# Altium footprint library Capacitor Polar Axial.PcbLib: 56 footprints (part 4 of 4)
Each footprint in its own frame and in the unit in brackets; x right, y up, seen from the top. Pads: shape width x height; smd on the part's side, far side on the other; paste and mask are expansions set on the pad; w line width, h text height; cw(c..) or ccw(c..) is an arc to the next point about the centre after c.
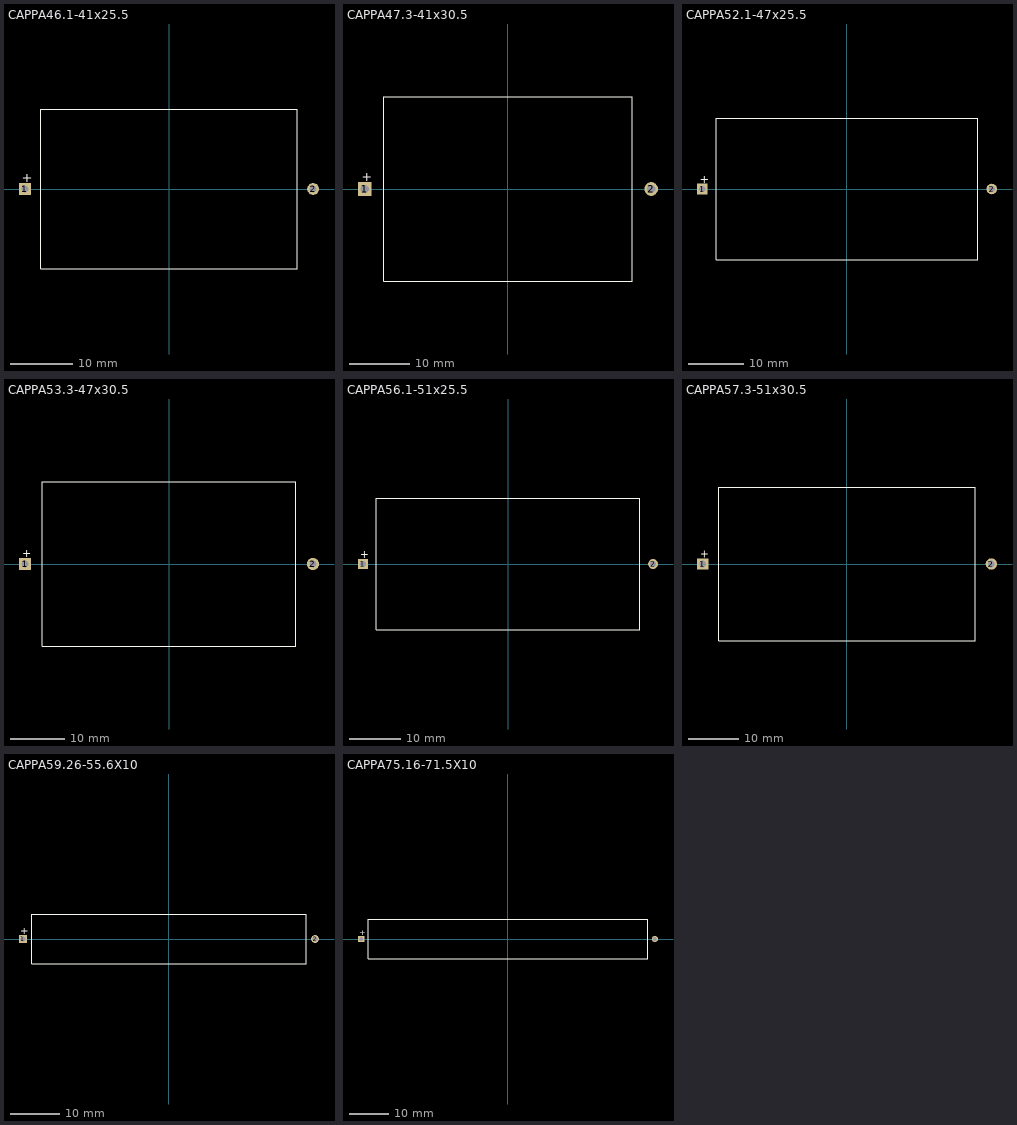
[diagram p3: the footprints below, top view; thin cyan lines are the x and y axes]

## CAPPA46.1-41x25.5 [mm] "Capacitor, Axial, Polarised; Body 41 x 25.5 mm (LxDia. max), Lead Dia. 0.8 mm (typ)"
height 25.5
pads (2):
  rect 1.9x1.9 hole 1.15: 1(-23.05,0)
  round 1.9 hole 1.15: 2(23.05,0)
Top Overlay:
  lines w0.2: -20.5,-12.75 -20.5,12.75 20.5,12.75 20.5,-12.75 -20.5,-12.75
  text "+" at -23.55,1.075 h1.5

## CAPPA47.3-41x30.5 [mm] "Capacitor, Axial, Polarised; Body 41 x 30.5 mm (LxDia. max), Lead Dia. 1 mm (typ)"
height 30.5
pads (2):
  rect 2.25x2.25 hole 1.35: 1(-23.65,0)
  round 2.25 hole 1.35: 2(23.65,0)
Top Overlay:
  lines w0.2: -20.5,-15.25 -20.5,15.25 20.5,15.25 20.5,-15.25 -20.5,-15.25
  text "+" at -24.15,1.25 h1.5

## CAPPA52.1-47x25.5 [mm] "Capacitor, Axial, Polarised; Body 47 x 25.5 mm (LxDia. max), Lead Dia. 0.8 mm (typ)"
height 25.5
pads (2):
  rect 1.9x1.9 hole 1.15: 1(-26.05,0)
  round 1.9 hole 1.15: 2(26.05,0)
Top Overlay:
  lines w0.2: -23.5,-12.75 23.5,-12.75 23.5,12.75 -23.5,12.75 -23.5,-12.75
  text "+" at -26.55,1.075 h1.5

## CAPPA53.3-47x30.5 [mm] "Capacitor, Axial, Polarised; Body 47 x 30.5 mm (LxDia. max), Lead Dia. 1 mm (typ)"
height 30.5
pads (2):
  rect 2.25x2.25 hole 1.35: 1(-26.65,0)
  round 2.25 hole 1.35: 2(26.65,0)
Top Overlay:
  lines w0.2: -23.5,-15.25 23.5,-15.25 23.5,15.25 -23.5,15.25 -23.5,-15.25
  text "+" at -27.15,1.25 h1.5

## CAPPA56.1-51x25.5 [mm] "Capacitor, Axial, Polarised; Body 51 x 25.5 mm (LxDia. max), Lead Dia. 0.8 mm (typ)"
height 25.5
pads (2):
  rect 1.9x1.9 hole 1.15: 1(-28.05,0)
  round 1.9 hole 1.15: 2(28.05,0)
Top Overlay:
  lines w0.2: -25.5,-12.75 -25.5,12.75 25.5,12.75 25.5,-12.75 -25.5,-12.75
  text "+" at -28.55,1.075 h1.5

## CAPPA57.3-51x30.5 [mm] "Capacitor, Axial, Polarised; Body 51 x 30.5 mm (LxDia. max), Lead Dia. 1 mm (typ)"
height 30.5
pads (2):
  rect 2.25x2.25 hole 1.35: 1(-28.65,0)
  round 2.25 hole 1.35: 2(28.65,0)
Top Overlay:
  lines w0.2: -25.5,-15.25 25.5,-15.25 25.5,15.25 -25.5,15.25 -25.5,-15.25
  text "+" at -29.15,1.25 h1.5

## CAPPA59.26-55.6X10 [mm] "Capacitor, Axial, Polarised; Body 55.5 x 9.9 mm (LxDia. max), Lead Dia. 0.64 mm (typ)"
height 10
pads (2):
  rect 1.6x1.6 hole 0.95: 1(-29.63,0)
  round 1.6 hole 0.95: 2(29.63,0)
Top Overlay:
  lines w0.2: -27.8,-5 27.8,-5 27.8,5 -27.8,5 -27.8,-5
  text "+" at -30.13,0.925 h1.5

## CAPPA75.16-71.5X10 [mm] "Capacitor, Axial, Polarised; Body 71.4 x 9.9 mm (LxDia. max), Lead Dia. 0.64 mm (typ)"
height 10
pads (2):
  rect 1.6x1.6 hole 0.95: 1(-37.58,0)
  round 1.6 hole 0.95: 2(37.58,0)
Top Overlay:
  lines w0.2: -35.75,-5 35.75,-5 35.75,5 -35.75,5 -35.75,-5
  text "+" at -38.08,0.925 h1.5